# Altium schematic symbol library KMMX-BSMT5SB-30TR.SchLib: 1 symbol
Pins are listed as number, name and electrical type; pins without a type are passive.

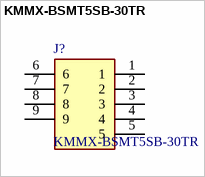
[diagram p0: symbol KMMX-BSMT5SB-30TR]

## KMMX-BSMT5SB-30TR
designator J?
USB Connectors MICRO USB TYPE B SMT BLACK 30"GOLD; Manufacturer_Name: Kycon; Geometry.Height: 3mm; Mouser Part Number: 806-KMMX-BSMT5SB-30; Mouser Price/Stock: https://www.mouser.co.uk/ProductDetail/Kycon/KMMX-BSMT5SB-30TR?qs=PZ1ub9NEDaWcdVwXxQY48w%3D%3D; Manufacturer_Part_Number: KMMX-BSMT5SB-30TR; Datasheet Link: http://www.kycon.com/Pub_Eng_Draw/KMMX-BSMT5SB-30TR.pdf
footprint KMMXBSMT5SB30TR
pins: 1, 2, 3, 4, 5, 6, 7, 8, 9